# EAGLE library part DECADE-1.25MM_1X6-ICSP (library DECADE-libraries)
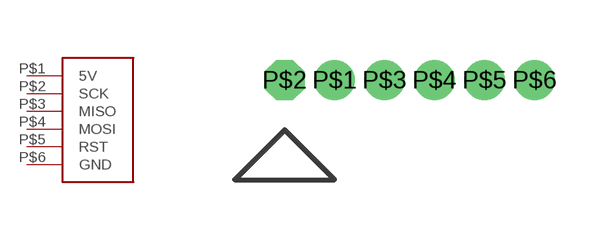
[diagram p106: symbol with the pads of 1X06-1.25MM; footprint 1X06-1.25MM]

Designator prefix -

## DECADE-1.25MM_1X6-ICSP  [1X06-1.25MM]
P$1  5V
P$2  SCK
P$3  MISO
P$4  MOSI
P$5  RST
P$6  GND

## Footprint 1X06-1.25MM (pad centres in mm)
drill 0.5: P$1 1.25,0; P$3 2.5,0; P$4 3.75,0; P$5 5,0; P$6 6.25,0
drill 0.5 octagon: P$2 0,0